# Altium schematic symbol library level_switch.SchLib: 2 symbols
Pins are listed as number, name and electrical type; pins without a type are passive.

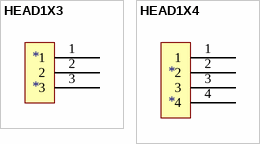
[diagram p0: symbols HEAD1X3 to HEAD1X4]

## HEAD1X3
designator *
pins: 1, 2, 3

## HEAD1X4
designator *
footprint HDR1X4
pins: 1, 2, 3, 4